# EAGLE library part 2130 (library memory)
MEMORY
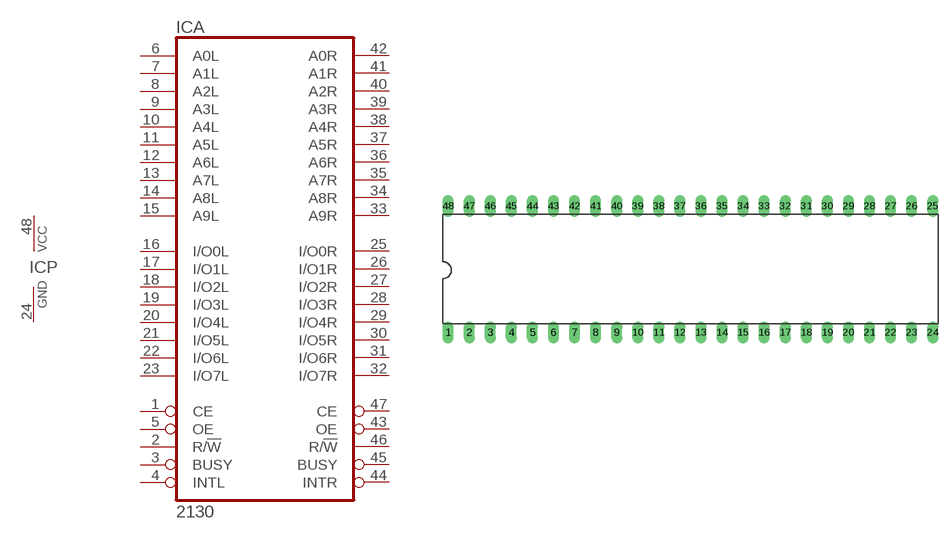
[diagram p72: symbol with the pads of DIL48; footprint DIL48]

Designator prefix IC; gates A=2130 P=PWRN

## 2130  [DIL48]
1  A:CE  in
2  A:R/!W  in
3  A:BUSY  out
4  A:INTL  out
5  A:OE  in
6  A:A0L  in
7  A:A1L  in
8  A:A2L  in
9  A:A3L  in
10  A:A4L  in
11  A:A5L  in
12  A:A6L  in
13  A:A7L  in
14  A:A8L  in
15  A:A9L  in
16  A:I/O0L
17  A:I/O1L
18  A:I/O2L
19  A:I/O3L
20  A:I/O4L
21  A:I/O5L
22  A:I/O6L
23  A:I/O7L
24  P:GND  pwr
25  A:I/O0R
26  A:I/O1R
27  A:I/O2R
28  A:I/O3R
29  A:I/O4R
30  A:I/O5R
31  A:I/O6R
32  A:I/O7R
33  A:A9R  in
34  A:A8R  in
35  A:A7R  in
36  A:A6R  in
37  A:A5R  in
38  A:A4R  in
39  A:A3R  in
40  A:A2R  in
41  A:A1R  in
42  A:A0R  in
43  A:OE  in
44  A:INTR  out
45  A:BUSY  out
46  A:R/!W  in
47  A:CE  in
48  P:VCC  pwr

## Footprint DIL48 (pad centres in mm)
Dual In Line Package
drill 0.813 long: 1 -29.21,-7.62; 2 -26.67,-7.62; 3 -24.13,-7.62; 4 -21.59,-7.62; 5 -19.05,-7.62; 6 -16.51,-7.62; 7 -13.97,-7.62; 8 -11.43,-7.62; 9 -8.89,-7.62; 10 -6.35,-7.62; 11 -3.81,-7.62; 12 -1.27,-7.62; 13 1.27,-7.62; 14 3.81,-7.62; 15 6.35,-7.62; 16 8.89,-7.62; 17 11.43,-7.62; 18 13.97,-7.62; 19 16.51,-7.62; 20 19.05,-7.62; 21 21.59,-7.62; 22 24.13,-7.62; 23 26.67,-7.62; 24 29.21,-7.62; 25 29.21,7.62; 26 26.67,7.62; 27 24.13,7.62; 28 21.59,7.62; 29 19.05,7.62; 30 16.51,7.62; 31 13.97,7.62; 32 11.43,7.62; 33 8.89,7.62; 34 6.35,7.62; 35 3.81,7.62; 36 1.27,7.62; 37 -1.27,7.62; 38 -3.81,7.62; 39 -6.35,7.62; 40 -8.89,7.62; 41 -11.43,7.62; 42 -13.97,7.62; 43 -16.51,7.62; 44 -19.05,7.62; 45 -21.59,7.62; 46 -24.13,7.62; 47 -26.67,7.62; 48 -29.21,7.62